# Altium footprint library FCAM_CSI_FMC.PcbLib: 5 footprints
Each footprint in its own frame and in the unit in brackets; x right, y up, seen from the top. Pads: shape width x height; smd on the part's side, far side on the other; paste and mask are expansions set on the pad; w line width, h text height; cw(c..) or ccw(c..) is an arc to the next point about the centre after c.
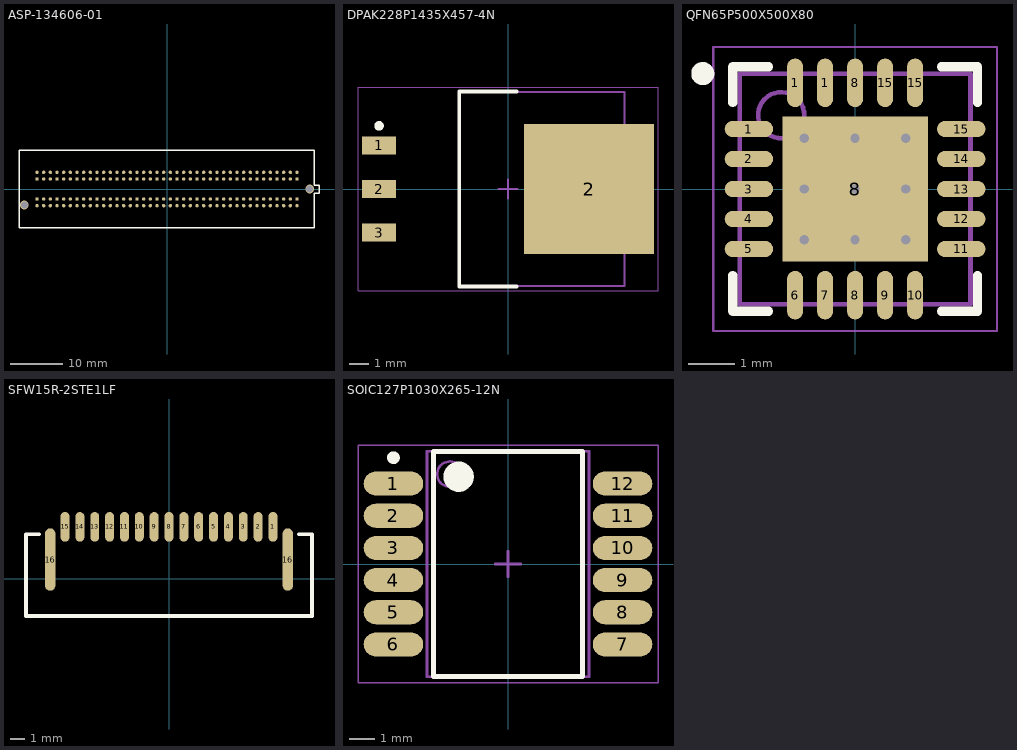
[diagram p0: the footprints below, top view; thin cyan lines are the x and y axes]

## ASP-134606-01 [mil]
pads (160):
  round 25 smd: C1(975,125) C2(925,125) C3(875,125) C4(825,125) C5(775,125) C6(725,125) C7(675,125) C8(625,125) C9(575,125) C10(525,125) C11(475,125) C12(425,125) C13(375,125) C14(325,125) C15(275,125) C16(225,125) C17(175,125) C18(125,125) C19(75,125) C20(25,125) C21(-25,125) C22(-75,125) C23(-125,125) C24(-175,125) C25(-225,125) C26(-275,125) C27(-325,125) C28(-375,125) C29(-425,125) C30(-475,125) C31(-525,125) C32(-575,125) C33(-625,125) C34(-675,125) C35(-725,125) C36(-775,125) C37(-825,125) C38(-875,125) C39(-925,125) C40(-975,125) D1(975,75) D2(925,75) D3(875,75) D4(825,75) D5(775,75) D6(725,75) D7(675,75) D8(625,75) D9(575,75) D10(525,75) D11(475,75) D12(425,75) D13(375,75) D14(325,75) D15(275,75) D16(225,75) D17(175,75) D18(125,75) D19(75,75) D20(25,75) D21(-25,75) D22(-75,75) D23(-125,75) D24(-175,75) D25(-225,75) D26(-275,75) D27(-325,75) D28(-375,75) D29(-425,75) D30(-475,75) D31(-525,75) D32(-575,75) D33(-625,75) D34(-675,75) D35(-725,75) D36(-775,75) D37(-825,75) D38(-875,75) D39(-925,75) D40(-975,75) G1(975,-75) G2(925,-75) G3(875,-75) G4(825,-75) G5(775,-75) G6(725,-75) G7(675,-75) G8(625,-75) G9(575,-75) G10(525,-75) G11(475,-75) G12(425,-75) G13(375,-75) G14(325,-75) G15(275,-75) G16(225,-75) G17(175,-75) G18(125,-75) G19(75,-75) G20(25,-75) G21(-25,-75) G22(-75,-75) G23(-125,-75) G24(-175,-75) G25(-225,-75) G26(-275,-75) G27(-325,-75) G28(-375,-75) G29(-425,-75) G30(-475,-75) G31(-525,-75) G32(-575,-75) G33(-625,-75) G34(-675,-75) G35(-725,-75) G36(-775,-75) G37(-825,-75) G38(-875,-75) G39(-925,-75) G40(-975,-75) H1(975,-125) H2(925,-125) H3(875,-125) H4(825,-125) H5(775,-125) H6(725,-125) H7(675,-125) H8(625,-125) H9(575,-125) H10(525,-125) H11(475,-125) H12(425,-125) H13(375,-125) H14(325,-125) H15(275,-125) H16(225,-125) H17(175,-125) H18(125,-125) H19(75,-125) H20(25,-125) H21(-25,-125) H22(-75,-125) H23(-125,-125) H24(-175,-125) H25(-225,-125) H26(-275,-125) H27(-325,-125) H28(-375,-125) H29(-425,-125) H30(-475,-125) H31(-525,-125) H32(-575,-125) H33(-625,-125) H34(-675,-125) H35(-725,-125) H36(-775,-125) H37(-825,-125) H38(-875,-125) H39(-925,-125) H40(-975,-125)
via -1070,-120 diameter 65 hole 52
via 1070,0 diameter 65 hole 52
Top Overlay:
  lines w10: -1110,-290 -1110,290 0,290 1105,290 1105,30 1140,30 1140,-30 1105,-30 1105,-290 -1110,-290

## DPAK228P1435X457-4N [mm] "D2-PAK, 4-Pads, Body 7.42x8.44mm (max), IPC Medium Density"
height 4.57
pads (4):
  rect 1.8x0.95 smd: 1(-6.75,2.28) 2(-6.75,0) 3(-6.75,-2.28)
  rect 6.8x6.8 smd: 2(4.25,0)
Top Overlay:
  circle w0.25: c-6.75,3.305 r0.125
  lines w0.2: 0.45,-5.1 -2.55,-5.1 -2.55,5.1 0.45,5.1
Mechanical 13:
  lines w0.1: -2.55,-5.075 6.09,-5.075 6.09,5.075 -2.55,5.075 -2.55,-5.075
Mechanical 15:
  lines w0.05: -7.85,-5.325 7.85,-5.325 7.85,5.325 -7.85,5.325 -7.85,-5.325
  lines w0.1: -0.5,0 0.5,0 ; 0,-0.5 0,0.5
3D body: height 4.57, standoff 0, extent -2.55,-5.075 6.09,5.075

## QFN65P500X500X80 [mm] "QFN, 20-Leads, Body 5.00x5.00mm, Pitch 0.65mm, Thermal Pad 3.15x3.15mm, IPC Medium Density"
height 0.8
pads (21):
  oval 1.05x0.35 smd: 1(-2.3,1.3) 2(-2.3,0.65) 3(-2.3,0) 4(-2.3,-0.65) 5(-2.3,-1.3) 11(2.3,-1.3) 12(2.3,-0.65) 13(2.3,0) 14(2.3,0.65) 15(2.3,1.3)
  oval 0.35x1.05 smd: 1(-1.3,2.3) 1(-0.65,2.3) 6(-1.3,-2.3) 7(-0.65,-2.3) 8(0,-2.3) 8(0,2.3) 9(0.65,-2.3) 10(1.3,-2.3) 15(0.65,2.3) 15(1.3,2.3)
  rect 3.15x3.15 smd: 8(0,0)
via -1.1,1.1 diameter 0.5 hole 0.2
via 0,1.1 diameter 0.5 hole 0.2
via 1.1,1.1 diameter 0.5 hole 0.2
via -1.1,0 diameter 0.5 hole 0.2
via 0,0 diameter 0.5 hole 0.2
via 1.1,0 diameter 0.5 hole 0.2
via -1.1,-1.1 diameter 0.5 hole 0.2
via 0,-1.1 diameter 0.5 hole 0.2
via 1.1,-1.1 diameter 0.5 hole 0.2
Top Overlay:
  circle w0.25: c-3.3,2.5 r0.125
  lines w0.2: -2.65,-1.875 -2.65,-2.65 -1.875,-2.65 ; -2.65,1.875 -2.65,2.65 -1.875,2.65 ; 1.875,-2.65 2.65,-2.65 2.65,-1.875 ; 1.875,2.65 2.65,2.65 2.65,1.875
Mechanical 13:
  circle w0.1: c-1.6,1.6 r0.5
  lines w0.1: -2.5,-2.5 -2.5,2.5 2.5,2.5 2.5,-2.5 -2.5,-2.5
Mechanical 15:
  lines w0.05: -3.075,-3.075 -3.075,3.075 3.075,3.075 3.075,-3.075 -3.075,-3.075
  lines w0.1: -0.5,0 0.5,0 ; 0,-0.5 0,0.5
3D body: height 0.8, standoff 0.01, extent -2.5,-2.5 2.5,2.5

## SFW15R-2STE1LF [mm]
pads (17):
  oval 0.6x2 smd: 1(7,3.5) 2(6,3.5) 3(5,3.5) 4(4,3.5) 5(3,3.5) 6(2,3.5) 7(1,3.5) 8(0,3.5) 9(-1,3.5) 10(-2,3.5) 11(-3,3.5) 12(-4,3.5) 13(-5,3.5) 14(-6,3.5) 15(-7,3.5)
  oval 0.7x4.2 smd: 16(-8,1.3) 16(8,1.3)
Top Overlay:
  lines w0.254: -8.75,3 -9.625,3 -9.625,-2.5 9.625,-2.5 9.625,2.5 9.625,3 8.75,3

## SOIC127P1030X265-12N [mm] "SOIC, 12-Leads, Body 8.89x6.35mm, Pitch 1.27mm, IPC Medium Density"
height 2.65
pads (12):
  oval 2.35x0.95 smd: 1(-4.525,3.175) 2(-4.525,1.905) 3(-4.525,0.635) 4(-4.525,-0.635) 5(-4.525,-1.905) 6(-4.525,-3.175) 7(4.525,-3.175) 8(4.525,-1.905) 9(4.525,-0.635) 10(4.525,0.635) 11(4.525,1.905) 12(4.525,3.175)
Top Overlay:
  circle w0.25: c-4.525,4.2 r0.125
  circle w0.6: c-1.95,3.45 r0.3
  lines w0.2: -2.95,-4.45 -2.95,4.45 2.95,4.45 2.95,-4.45 -2.95,-4.45
Mechanical 13:
  circle w0.1: c-2.3,3.55 r0.5
  lines w0.1: -3.2,-4.45 -3.2,4.45 3.2,4.45 3.2,-4.45 -3.2,-4.45
Mechanical 15:
  lines w0.05: -5.925,-4.7 -5.925,4.7 5.925,4.7 5.925,-4.7 -5.925,-4.7
  lines w0.1: -0.5,0 0.5,0 ; 0,-0.5 0,0.5
3D body: height 2.65, standoff 0.1, extent -3.2,-4.45 3.2,4.45